# Altium schematic symbol library BLM15AG100SN1D.SchLib: 1 symbol
Pins are listed as number, name and electrical type; pins without a type are passive.

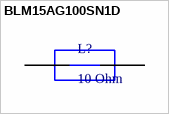
[diagram p0: symbol BLM15AG100SN1D]

## BLM15AG100SN1D
designator L?, comment 10 Ohm
BLM15AG100SN1D¸SMD filter Inductor, Murata
footprint INDC1005X06N (Chip Inductor, 2-Leads, Body 1.00x0.50mm, IPC Medium Density)
pins: 1, 2